# Altium schematic symbol library FDC6331L.SchLib: 1 symbol
Pins are listed as number, name and electrical type; pins without a type are passive.

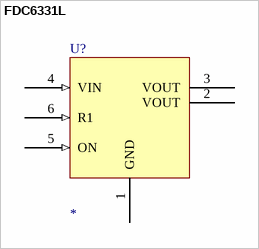
[diagram p0: symbol FDC6331L]

## FDC6331L
designator U?
pins: 1 GND (power), 2 VOUT (power), 3 VOUT (power), 4 VIN (in), 5 ON (in), 6 R1 (in)